# Altium schematic symbol library Acquisition-System.SCHLIB: 14 symbols
Pins are listed as number, name and electrical type; pins without a type are passive.

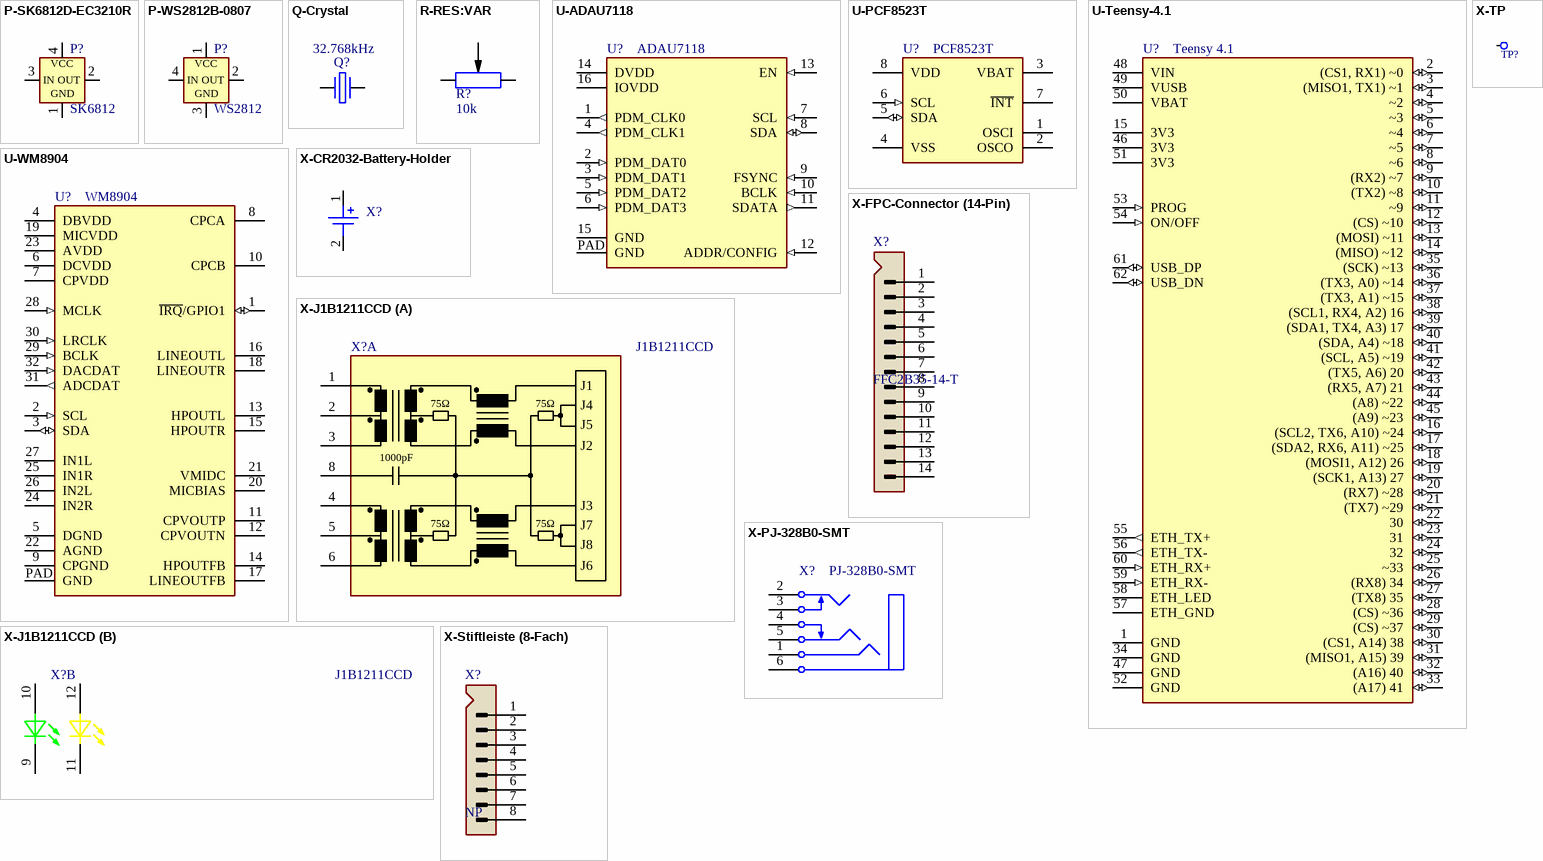
[diagram p0: symbols P-SK6812D-EC3210R to X-TP]

## P-SK6812D-EC3210R
designator P?, comment SK6812
Smart RGB-LED; aliExpress: 1005003125851992; Component Value: SK6812D-EC3210R; Digikey: 1528-4893-ND; Mouser: 485-4893; JLC-Parts: C2890041; ComponentLink1Description: Datasheet; ComponentLink1URL: https://datasheet.lcsc.com/lcsc/2108251530_OPSCO-Optoelectronics-SK6812D-EC3210R_C2890041.pdf; Component Description: Smart RGB-LED; Unit Price: 0.12
footprint SMD LED SK6812D-EC3210R (SMD_LED_RED)
pins: 1 GND (power), 2 OUT, 3 IN, 4 VCC (power)

## P-WS2812B-0807
designator P?, comment WS2812
Smart RGB-LED; aliExpress: 1005003999865721; Component Value: XL-0807RGBC-WS2812B; JLC-Parts: C3646929; ComponentLink1Description: Datasheet; ComponentLink1URL: https://datasheet.lcsc.com/lcsc/2108251530_OPSCO-Optoelectronics-SK6812D-EC3210R_C2890041.pdf; Component Description: Smart RGB-LED; Unit Price: 0.07
footprint SMD LED WS2812B-0807 (SMD_LED_RED)
pins: 1 VCC (power), 2 OUT, 3 GND (power), 4 IN

## Q-Crystal
designator Q?, comment 32.768kHz
Component Description: Crystal; Digikey: SER4103CT-ND; Mouser: 732-532.7680KA-A5; ComponentLink1Description: Datasheet; ComponentLink1URL: https://datasheet.lcsc.com/lcsc/1810171817_Seiko-Epson-Q13FC1350000400_C32346.pdf; Component Value: 32.768kHz; JLC-Parts: C32346; Unit Price: 0.18
pins: 1, 2
2 alternate drawings of the same symbol

## R-RES:VAR
designator R?, comment 10k
RES-VAR; Component Description: Potentiometer; Component Value: RK10J11R0A0H (Dual 10k); ComponentLink1Description: Datasheet; ComponentLink1URL: https://docs.rs-online.com/6334/A700000006802142.pdf; JLC-Parts: C470766; Mouser: 688-RK10J11R0A0H; Unit Price: 0.60
footprint THT Potentiometer (RK09D1130C2P) (Capacitor, Electrolytic, Radial; Body 5 x 5 mm (Dia.xH typ); Pin Spacing 2 mm (typ))
pins: CCW, CW, M
2 alternate drawings of the same symbol

## U-ADAU7118
designator U?, comment ADAU7118
8-Channel PDM to I²S/TDM Converter; Component Value: ADAU7118ACPZRL; ComponentLink1Description: Datasheet; ComponentLink1URL: https://www.analog.com/media/en/technical-documentation/data-sheets/ADAU7118.pdf; Digikey: 505-ADAU7118ACPZRLCT-ND; Farnell: 4033291; JLC-Parts: C654437; Mouser: 584-ADAU7118ACPZRL; Unit Price: 6.20; Component Description: 8-Channel PDM to I²S/TDM Converter
footprint SMD IC TO-263-5
pins: 1 PDM_CLK0 (out), 2 PDM_DAT0 (in), 3 PDM_DAT1 (in), 4 PDM_CLK1 (out), 5 PDM_DAT2 (in), 6 PDM_DAT3 (in), 7 SCL (in), 8 SDA (io), 9 NC hidden, 9 FSYNC (in), 10 NC hidden, 10 BCLK (in), 11 NC hidden, 11 SDATA (out), 12 ADDR/CONFIG (in), 13 EN (in), 14 DVDD (power), 15 GND (power), 16 IOVDD (power), PAD GND (power)

## U-PCF8523T
designator U?, comment PCF8523T
Real-Time Clock (RTC) and Calendar; Component Value: PCF8523T/1,118; ComponentLink1Description: Datasheet; ComponentLink1URL: https://www.nxp.com/docs/en/data-sheet/PCF8523.pdf; Digikey: 568-5306-1-ND; Farnell: 2400452; JLC-Parts: C2651516; Mouser: 771-PCF8523T/1118; Unit Price: 1.35; Component Description: Real-Time Clock (RTC) and Calendar
footprint SMD IC TO-263-5
pins: 1 OSCI, 2 OSCO, 3 VBAT (power), 4 VSS (power), 5 SDA (io), 6 SCL (in), 7 ~{INT} (oc), 8 VDD (power), 9 NC hidden, 10 NC hidden, 11 NC hidden

## U-Teensy-4.1
designator U?, comment Teensy 4.1
RT1062 i.MX ARM® Cortex®-M7 MPU; ComponentLink1Description: Datasheet; ComponentLink1URL: https://mm.digikey.com/Volume0/opasdata/d220001/medias/docus/497/DEV-16771_Web.pdf; Digikey: 1568-DEV-16771-ND; Component Value: Teensy 4.1; Mouser: 474-DEV-16771; Unit Price: 28.70; Component Description: RT1062 i.MX ARM® Cortex®-M7 MPU
footprint SMD IC TO-263-5
pins: 1 GND (power), 2 (CS1, RX1) ~0 (io), 3 (MISO1, TX1) ~1 (io), 4 ~2 (io), 5 ~3 (io), 6 ~4 (io), 7 ~5 (io), 8 ~6 (io), 9 NC hidden, 9 (RX2) ~7 (io), 10 NC hidden, 10 (TX2) ~8 (io), 11 NC hidden, 11 ~9 (io), 12 (CS) ~10 (io), 13 (MOSI) ~11 (io), 14 (MISO) ~12 (io), 15 3V3 (power), 16 (SCL2, TX6, A10) ~24 (io), 17 (SDA2, RX6, A11) ~25 (io), 18 (MOSI1, A12) 26 (io), 19 (SCK1, A13) 27 (io), 20 (RX7) ~28 (io), 21 (TX7) ~29 (io), 22 30 (io), 23 31 (io), 24 32 (io), 25 ~33 (io), 26 (RX8) 34 (io), 27 (TX8) 35 (io), 28 (CS) ~36 (io), 29 (CS) ~37 (io), 30 (CS1, A14) 38 (io), 31 (MISO1, A15) 39 (io), 32 (A16) 40 (io), 33 (A17) 41 (io), 34 GND (power), 35 (SCK) ~13 (io), 36 (TX3, A0) ~14 (io), 37 (TX3, A1) ~15 (io), 38 (SCL1, RX4, A2) 16 (io), 39 (SDA1, TX4, A3) 17 (io), 40 (SDA, A4) ~18 (io), 41 (SCL, A5) ~19 (io), 42 (TX5, A6) 20 (io), 43 (RX5, A7) 21 (io), 44 (A8) ~22 (io), 45 (A9) ~23 (io), 46 3V3 (power), 47 GND (power), 48 VIN (power), 49 VUSB (power), 50 VBAT (power), 51 3V3 (power), 52 GND (power), 53 PROG (in), 54 ON/OFF (in), 55 ETH_TX+ (out), 56 ETH_TX- (out), 57 ETH_GND (power), 58 ETH_LED, 59 ETH_RX- (in), 60 ETH_RX+ (in), 61 USB_DP (io), 62 USB_DN (io)
1 alternate drawing of the same symbol

## U-WM8904
designator U?, comment WM8904
Low-Power Audio Codec with Headphones Driver; Component Value: WM8904CGEFL; ComponentLink1Description: Datasheet; ComponentLink1URL: https://statics.cirrus.com/pubs/proDatasheet/WM8904_Rev4.0.pdf; Digikey: 598-2437-1-ND; JLC-Parts: C323845; Mouser: 238-WM8904CGEFL/RV; Unit Price: 1.37; Component Description: Low-Power Audio Codec with Headphones Driver
footprint SMD IC TO-263-5
pins: 1 ~{IRQ}/GPIO1 (io), 2 SCL (in), 3 SDA (io), 4 DBVDD (power), 5 DGND (power), 6 DCVDD (power), 7 CPVDD (power), 8 CPCA, 9 NC hidden, 9 CPGND (power), 10 NC hidden, 10 CPCB, 11 NC hidden, 11 CPVOUTP, 12 CPVOUTN, 13 HPOUTL, 14 HPOUTFB, 15 HPOUTR, 16 LINEOUTL, 17 LINEOUTFB, 18 LINEOUTR, 19 MICVDD (power), 20 MICBIAS, 21 VMIDC, 22 AGND (power), 23 AVDD (power), 24 IN2R, 25 IN1R, 26 IN2L, 27 IN1L, 28 MCLK (in), 29 BCLK (in), 30 LRCLK (in), 31 ADCDAT (out), 32 DACDAT (in), PAD GND (power)

## X-CR2032-Battery-Holder
designator X?, comment 1060TR  (value not drawn)
Battery Holder (CR2032); Component Value: 1060TR; Digikey: 36-1060CT-ND; Farnell: 2533470; Mouser: 534-1060TR; Unit Price: 0.25; ComponentLink1Description: Datasheet; ComponentLink1URL: https://datasheet.lcsc.com/lcsc/2012181808_MYOUNG-BS-06-B4AA002_C964756.pdf; JLC-Parts: C964756; Component Description: Battery Holder (CR2032)
footprint SMD Battery-Holder (1048P)
pins: 1 P, 2 N

## X-FPC-Connector (14-Pin)
designator X?, comment FFC2B35-14-T
FPC-Connector (14-Pin, Front Flip,  Bottom Contact); Digikey: 2073-FFC2B35-14-TDKR-ND; Farnell: 3933420; Mouser: 640-FFC2B35-14-T; Component Description: FPC-Connector (14-Pin, Front Flip,  Bottom Contact); Component Value: FFC2B35-14-T; JLC-Parts: C262663; Unit Price: 0.09; ComponentLink2Description: Datasheet; ComponentLink2URL: https://gct.co/files/drawings/ffc2b35.pdf
footprint THT Pin-Header 1x6 (NP) (Capacitor, Electrolytic, Radial; Body 5 x 5 mm (Dia.xH typ); Pin Spacing 2 mm (typ))
pins: 1, 2, 3, 4, 5, 6, 7, 8, 9, 10, 11, 12, 13, 14
1 alternate drawing of the same symbol

## X-J1B1211CCD
designator X?, comment J1B1211CCD
RJ45 Connector with Magnetics and LEDs; DigiKey: 1278-1052-ND; Mouser: 950-J1B1211CCD; Component Description: RJ45 Connector with Magnetics and LEDs; Component Value: J1B1211CCD; JLC-Parts: C910371; Unit Price: 1.85; ComponentLink2Description: Datasheet; ComponentLink2URL: https://datasheet.lcsc.com/lcsc/2011180207_WIZNET-J1B1211CCD_C910371.pdf
part A pins: 1 TD+, 2 TCT, 3 TD-, 4 RD+, 5 RCT, 6 RD-, 7 NC hidden, 8 VC1-
part B pins: 9 LEDYK, 10 LEDYA, 11 LEDGK, 12 LEDGA
part A text: J1; 75Ω; J4; J5; J2; 1000pF; J3; J7; J8; J6

## X-PJ-328B0-SMT
designator X?, comment PJ-328B0-SMT
3.5mm Headphone Jack 4-Pin; ComponentLink1Description: Datasheet; ComponentLink1URL: https://datasheet.lcsc.com/lcsc/2002271917_XKB-Connectivity-PJ-328B0-SMT_C437035.pdf; Digikey: CP-43514SJCT-ND; Component Value: PJ-328B0-SMT; JLC-Parts: C437035; Mouser: 490-SJ-43514-SMT-TR; Unit Price: 0.23; Component Description: 3.5mm Headphone Jack 4-Pin
footprint SMD 3.5mm Jack (PJ-328B0-SMT)
pins: 1, 2, 3, 4, 5, 6, 9 NC hidden, 10 NC hidden, 11 NC hidden

## X-Stiftleiste (8-Fach)
designator X?, comment NP
Component Description: Pin Header
footprint THT Pin-Header 1x6 (NP) (Capacitor, Electrolytic, Radial; Body 5 x 5 mm (Dia.xH typ); Pin Spacing 2 mm (typ))
pins: 1, 2, 3, 4, 5, 6, 7, 8
1 alternate drawing of the same symbol

## X-TP
designator TP?  (value not drawn)  (no BOM)
Testpunkt; Component Description: Testpoint; Component Value: Ø 0.8mm; Unit Price: 0.00
footprint THT Testpunkt Ø1mm
pins: 1